# Altium integrated library Power_Library.IntLib: 30 symbols
Pins are listed as number, name and electrical type; pins without a type are passive.

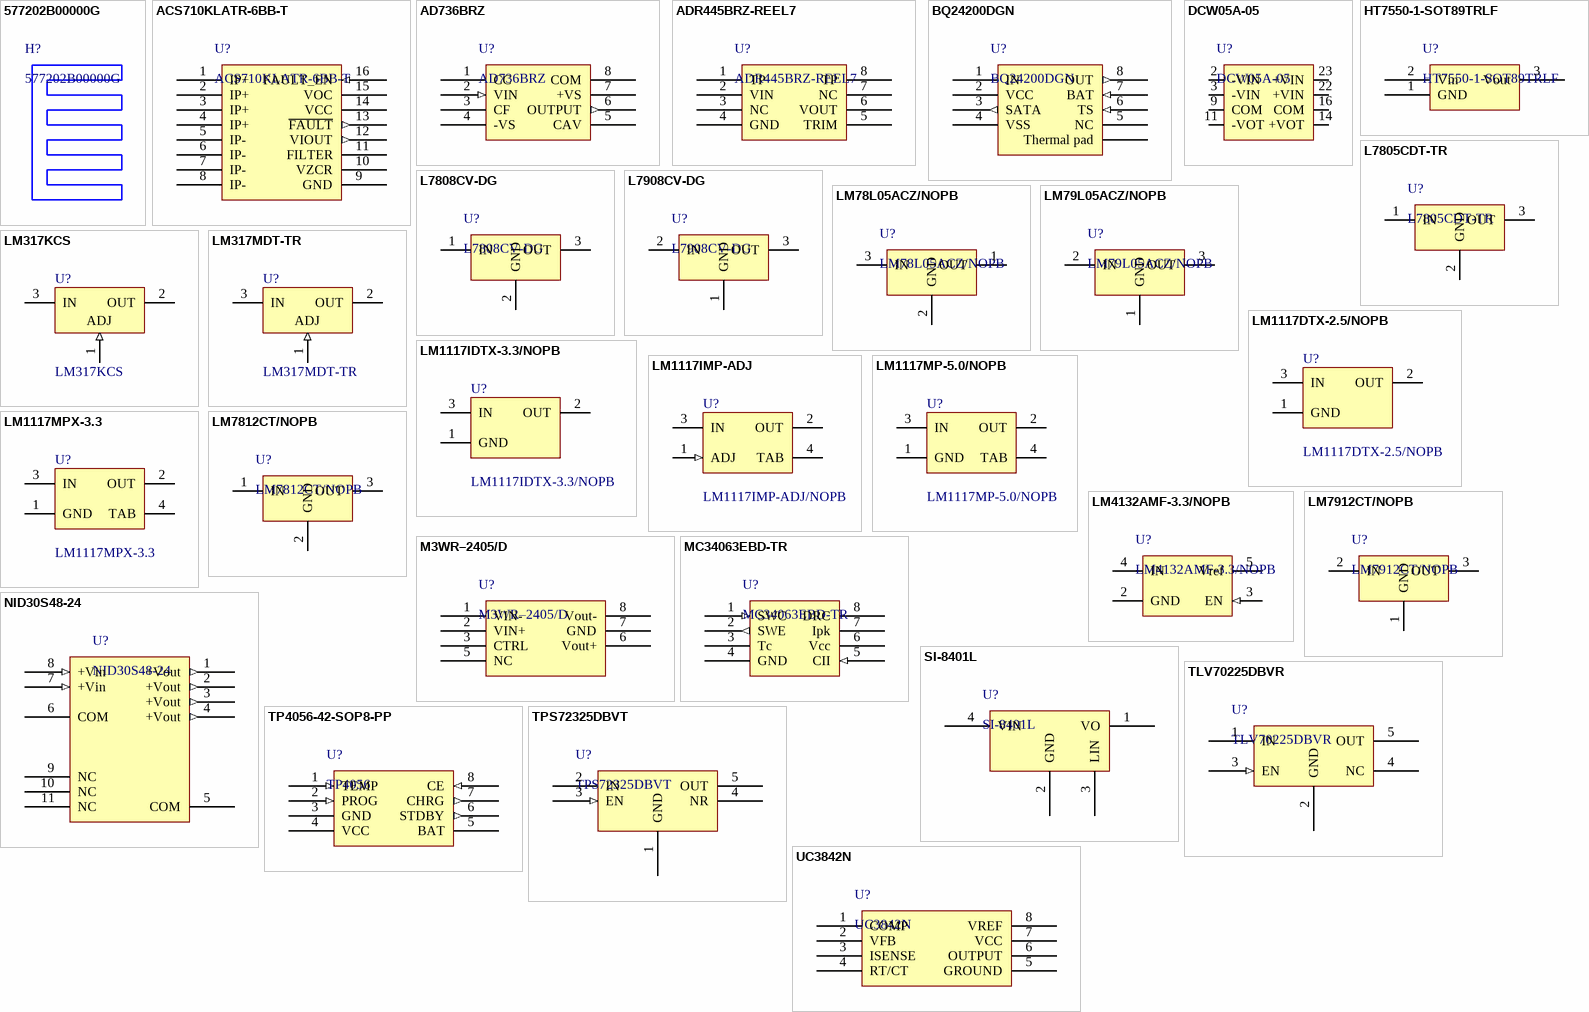
[diagram p0: symbols 577202B00000G to UC3842N]

## 577202B00000G
designator H?
HEAT SINK TO-220 .500" COMPACT， 需附上3mm*6mm圓頭十字螺絲與對應螺帽 * 1組，絕緣套 * 1，絕緣墊片 * 1; 單價: 13; 製造商: Aavid Thermalloy; 代理商: digikey; 參考網站: http://www.digikey.tw/product-detail/zh/aavid-thermalloy/577202B00000G/HS107-ND/108322; 資料手冊: http://www.aavid.com/sites/default/files/products/boardlevel/aavid-standard-heatsinks.pdf
footprint 577202B00000G

## ACS710KLATR-6BB-T
designator U?
SENSOR CURRENT HALL 6A AC/DC, SOIC 16; 單價: 209; 單價1: 55; 製造商: Allegro MicroSystems, LLC; 代理商: digikey; 參考網站(淘寶網): https://detail.tmall.com/item.htm?spm=a230r.1.14.111.XSmFYm&id=43825042733&ns=1&abbucket=2; 參考網站: http://www.digikey.tw/product-detail/zh/allegro-microsystems-llc/ACS710KLATR-6BB-T/620-1517-1-ND/4147406; 資料手冊: http://www.allegromicro.com/~/media/Files/Datasheets/ACS710-Datasheet.ashx
footprint SOIC 16P (7.5mm X 10.3mm)
pins: 1 IP+, 2 IP+, 3 IP+, 4 IP+, 5 IP-, 6 IP-, 7 IP-, 8 IP-, 9 GND (power), 10 VZCR, 11 FILTER, 12 VIOUT (out), 13 ~{FAULT} (out), 14 VCC (power), 15 VOC, 16 FAULT_EN (in)

## AD736BRZ
designator U?
功率管理專用 RMS-DC CONVERTER IC Low Cost-Pwr; 製造商: Analog Devices; 單價: 520.56; 參考網站: http://www.mouser.tw/ProductDetail/Analog-Devices/AD736BRZ/?qs=sGAEpiMZZMuzIDJVHEkzuTFXWbBXgFyU71WT4PmT4HQ%3d; 資料手冊: http://www.analog.com/media/en/technical-documentation/data-sheets/AD736.pdf
footprint SOIC 8P
pins: 1 CC, 2 VIN (in), 3 CF, 4 -VS (power), 5 CAV, 6 OUTPUT (out), 7 +VS (power), 8 COM

## ADR445BRZ-REEL7
designator U?
電壓參考 LDO 5.0V w/ Crnt Sink & Srce, SOIC-8; 製造商: Analog Devices; 代理商: mouser; 單價: 308.98; 參考網站: http://www.mouser.tw/ProductDetail/Analog-Devices/ADR445BRZ-REEL7/?qs=sGAEpiMZZMv9Q1JI0Mo%2ftTGF1afBF26B; 資料手冊: http://www.mouser.com/ds/2/609/ADR440_441_443_444_445-878982.pdf
footprint SMD SOIC 8P
pins: 1 TP, 2 VIN (power), 3 NC (power), 4 GND (power), 5 TRIM (power), 6 VOUT (power), 7 NC (power), 8 TP (power)

## BQ24200DGN
designator U?
電池管理產品 Single-Chip Li-Ion Charger 500-mA, 4.2-V Li-Ion Charger for Current-Limited App. w/Temp Sense in MSOP-8; 製造商: Texas Instruments; 單價: 117.38; 代理商: mouser; 參考網站: http://www.mouser.tw/ProductDetail/Texas-Instruments/BQ24200DGN/?qs=sGAEpiMZZMsfD%252bbMpEGFJW1dVgmxdCLcy9S2TmVyJBY%3d; 資料手冊: http://www.mouser.com/ds/2/405/bq24200-404142.pdf
footprint MSOP 8P EP (TI)
pins: 0 Thermal pad, 1 IN (power), 2 VCC (power), 3 SATA (out), 4 VSS (power), 5 NC (power), 6 TS (in), 7 BAT (in), 8 OUT (out)

## DCW05A-05
designator U?
隔離式DC/DC轉換器 9-18Vin +/-5Vout 50-500mA, 5W; 製造商: Mean Well; 代理商: mouser; 單價: 458.48; 資料手冊: http://www.mouser.com/ds/2/260/DCW05-spec-46707.pdf; 參考網站: http://www.mouser.tw/ProductDetail/Mean-Well/DCW05A-05/?qs=%2fha2pyFadujzLhC1ibUJFBi%252b8sjT3MlNTy8hbFD56Q8%3d; 中文參考手冊: http://www.wellforces.cn/mw_data/dcdc_modu/dcw05/dcw05-spec.pdf
footprint DCW05A-05
pins: 2 -VIN (power), 3 -VIN (power), 9 COM (power), 11 -VOT (power), 14 +VOT (power), 16 COM (power), 22 +VIN (power), 23 +VIN (power)

## HT7550-1-SOT89TRLF
designator U?
Voltage stabiliser; fixed; 5V; 0.1A; SOT89; SMD; 製造商: Holtek; 單價: 4.81; 代理商: octopart; 參考網站: https://octopart.com/search?manufacturer.displayname=Holtek&q=HT7550-1-SOT89TRLF; 資料手冊: http://www.e-ele.net/DataSheet/HT75XX-1.pdf
footprint TO-92
footprint SMD SOT89 (SMD)
pins: 1 GND (power), 2 Vin (power), 3 Vout (power)

## L7805CDT-TR
designator U?
線性電壓穩壓器 5.0V 1.0A Positive, Type  TO-252; 製造商: STMicroelectronics; 單價: 23.9; 代理商: mouser; 資料手冊: http://www.mouser.com/ds/2/389/CD00000444-249828.pdf; 參考網站: http://www.mouser.tw/ProductDetail/STMicroelectronics/L7805CDT-TR/?qs=sGAEpiMZZMuLLNXTG1MZanJ9Atp7Gt2CBB%2fEbvZotvM%3d
footprint TO-252
pins: 1 IN (power), 2 GND (power), 3 OUT (power)

## L7808CV-DG
designator U?
線性電壓穩壓器 Precision 1.5A Reg 24V Out Dual Gauge, Type  TO-220; 製造商: STMicroelectronics; 單價: 22.48; 代理商: mouser; 資料手冊: http://www.mouser.com/ds/2/389/CD00000444-249828.pdf; 參考網站: http://www.mouser.tw/ProductDetail/STMicroelectronics/L7808CV-DG/?qs=sGAEpiMZZMtUqDgmOWBjgK53SZwcKCmZIJ2rGgFr6xo%3d
footprint TO-220 (平衡型)
pins: 1 IN (power), 2 GND (power), 3 OUT (power)

## L7908CV-DG
designator U?
線性電壓穩壓器 Neg VTG Reg 15A Neg 8V 1.5A, Type  TO-220; 製造商: STMicroelectronics; 單價: 29.26; 代理商: mouser; 資料手冊: http://www.mouser.com/ds/2/389/CD00000450-249524.pdf; 參考網站: http://www.mouser.tw/ProductDetail/STMicroelectronics/L7908CV-DG/?qs=sGAEpiMZZMtUqDgmOWBjgOWppaI0OWwStGPUPivUULA%3d
footprint TO-220 (平衡型)
pins: 1 GND (power), 2 IN (power), 3 OUT (power)

## LM78L05ACZ/NOPB
designator U?
線性電壓穩壓器 3-Term Pos Regs, 5V 100mA, Type  TO-92; 製造商: Texas Instruments; 單價: 21.41; 代理商: mouser; 資料手冊: http://www.mouser.com/ds/2/405/lm78l05-406827.pdf; 參考網站: http://www.mouser.tw/ProductDetail/Texas-Instruments/LM78L05ACZ-NOPB/?qs=sGAEpiMZZMtUqDgmOWBjgJwP%252b5MP6LxOODMpO60LaVU%3d
footprint TO-92
pins: 1 OUT (power), 2 GND (power), 3 IN (power)

## LM79L05ACZ/NOPB
designator U?
線性電壓穩壓器 3-Term Pos Regs, -5V 100mA, Type  TO-92; 製造商: Texas Instruments; 單價: 24.98; 代理商: mouser; 資料手冊: http://www.mouser.com/ds/2/405/lm79l05-405367.pdf; 參考網站: http://www.mouser.tw/ProductDetail/Texas-Instruments/LM79L05ACZ-NOPB/?qs=sGAEpiMZZMtUqDgmOWBjgJwP%252b5MP6LxO3IF4yGM1Q6o%3d
footprint TO-92
pins: 1 GND (power), 2 IN (power), 3 OUT (power)

## LM317KCS
designator U?
線性電壓穩壓器 3-Term Adj. Pos.  TO-220-3; 製造商: Texas Instruments; 單價: 26.40; 代理商: mouser; 參考網站: http://www.mouser.tw/ProductDetail/Texas-Instruments/LM317KCS/?qs=sGAEpiMZZMtUqDgmOWBjgJyaVnGQIdqYYlJyFZGaVbY%3d; 資料手冊: http://www.mouser.com/ds/2/405/lm317-556636.pdf
footprint TO-220 (TO, Thru-Hole, Vertical, Heatsink Mounted; 3 In-Line Leads; Pitch 2.54 mm)
footprint TO-220-1 (TO, Thru-Hole, Vertical, Heatsink Mounted; 3 In-Line Leads; Pitch 2.54 mm)
pins: 1 ADJ (in), 2 OUT (power), 3 IN (power)

## LM317MDT-TR
designator U?
線性電壓穩壓器 1.2-37V Adj Positive, TO-252; 單價: 15.34; 製造商: STMicroelectronics; 代理商: Mouser; 參考網站: http://www.mouser.tw/ProductDetail/STMicroelectronics/LM317MDT-TR/?qs=sGAEpiMZZMsgSGrx0WqTbFkqur%252bAVpRj; 資料手冊: http://www.mouser.com/ds/2/389/CD00000549-252317.pdf
footprint TO-252
pins: 1 ADJ (in), 2 OUT (power), 3 IN (power)

## LM1117DTX-2.5/NOPB
designator U?
LDO電壓穩壓器 800mA LDO Linear Reg,  SOT-223; 製造商: Texas Instruments; 單價: 45.67; 代理商: mouser; 資料手冊: http://www.ti.com/lit/ds/symlink/lm1117.pdf; 參考網站: http://www.mouser.tw/ProductDetail/Texas-Instruments/LM1117DTX-25-NOPB/?qs=sGAEpiMZZMsGz1a6aV8DcCERHZHPu4lvruCnkWX8f8o%3d
footprint TO-252
pins: 1 GND (power), 2 OUT (power), 3 IN (power)

## LM1117IDTX-3.3/NOPB
designator U?
LDO電壓穩壓器 800mA LDO Linear Reg, SOT-223; 製造商: Texas Instruments; 單價: 45.67; 代理商: mouser; 資料手冊: http://www.ti.com/lit/ds/symlink/lm1117.pdf; 參考網站: http://www.mouser.tw/ProductDetail/Texas-Instruments/LM1117IDTX-33-NOPB/?qs=sGAEpiMZZMsGz1a6aV8DcCERHZHPu4lvTvJ2298Ixxo%3d
footprint TO-252
pins: 1 GND (power), 2 OUT (power), 3 IN (power)

## LM1117IMP-ADJ
designator U?, comment LM1117IMP-ADJ/NOPB
LDO電壓穩壓器 800mA Low-Dropout Linear Regulator, 4-pin SOT-223; 製造商: Texas Instruments; 代理商: mouser; 單價: 35.68; 資料手冊: http://www.mouser.com/ds/2/405/lm1117-806475.pdf; 參考網站: http://www.mouser.tw/ProductDetail/Texas-Instruments/LM1117IMP-ADJ-NOPB/?qs=sGAEpiMZZMsGz1a6aV8DcCERHZHPu4lv0oeWhBcFHCQ%3d
footprint SOT223 (SOT223, 4-Leads, Body 6.5x3.5mm, Pitch 2.3mm, Lead Span 7mm, IPC Medium Density)
pins: 1 ADJ (in), 2 OUT (power), 3 IN (power), 4 TAB (power)

## LM1117MP-5.0/NOPB
designator U?
LDO電壓穩壓器 800mA Low-Dropout Linear Regulator, 4-pin SOT-223; 製造商: Texas Instruments; 單價: 35.68; 代理商: mouser; 資料手冊: http://www.mouser.com/ds/2/405/lm1117-806475.pdf; 參考網站: http://www.mouser.tw/ProductDetail/Texas-Instruments/LM1117MP-50-NOPB/?qs=sGAEpiMZZMsGz1a6aV8DcCERHZHPu4lvRf1QWbpzAts%3d
footprint SOT223 (SOT223, 4-Leads, Body 6.5x3.5mm, Pitch 2.3mm, Lead Span 7mm, IPC Medium Density)
pins: 1 GND (power), 2 OUT (power), 3 IN (power), 4 TAB (power)

## LM1117MPX-3.3
designator U?
LDO電壓穩壓器 800mA Low-Dropout Linear Regulator, 4-pin SOT-223; 製造商: Texas Instruments; 單價: 53.16; 代理商: mouser; 資料手冊: http://www.mouser.com/ds/2/405/lm1117-806475.pdf; 參考網站: http://www.mouser.tw/ProductDetail/Texas-Instruments/LM1117MPX-33/?qs=sGAEpiMZZMsGz1a6aV8DcCERHZHPu4lvXUwcsduNwWQ%3d
footprint SOT223 (SOT223, 4-Leads, Body 6.5x3.5mm, Pitch 2.3mm, Lead Span 7mm, IPC Medium Density)
pins: 1 GND (power), 2 OUT (power), 3 IN (power), 4 TAB (power)

## LM4132AMF-3.3/NOPB
designator U?
電壓參考 Prec LDO Vtg Ref  3.3V , SOT23-5; 製造商: Texas Instruments; 代理商: mouser; 單價: 110.25; 參考網站: http://www.mouser.tw/ProductDetail/Texas-Instruments/LM4132AMF-33-NOPB/?qs=sGAEpiMZZMuBck1X%252b7j9fFxOFMTVQaIHwa28E8U1SlI%3d; 參考手冊: http://www.mouser.com/ds/2/405/lm4132-557767.pdf
footprint SOT23-5
pins: 2 GND (power), 3 EN (in), 4 IN (power), 5 Vref (power)

## LM7812CT/NOPB
designator U?
線性電壓穩壓器 3-Term Pos Regs, 12V 1A, Type  TO-220; 製造商: Texas Instruments; 單價: 55.31; 代理商: mouser; 資料手冊: http://www.mouser.com/ds/2/405/lm340-n-405278.pdf; 參考網站: http://www.mouser.tw/ProductDetail/Texas-Instruments/LM7812CT-NOPB/?qs=sGAEpiMZZMvYvv22R2xfePS1%252bj7fpdk9soksvTPakQg%3d
footprint TO-220 (平衡型)
pins: 1 IN (power), 2 GND (power), 3 OUT (power)

## LM7912CT/NOPB
designator U?
線性電壓穩壓器 3-Term Pos Regs, -12V 1A, Type  TO-220; 製造商: Texas Instruments; 單價: 50.31; 代理商: mouser; 資料手冊: http://www.mouser.com/ds/2/405/lm7912-444530.pdf; 參考網站: http://www.mouser.tw/ProductDetail/Texas-Instruments/LM7912CT-NOPB/?qs=sGAEpiMZZMtUqDgmOWBjgJwP%252b5MP6LxO5EF4eqLbc6o%3d
footprint TO-220 (平衡型)
pins: 1 GND (power), 2 IN (power), 3 OUT (power)

## M3WR–2405/D
designator U?
DC/DC CONVERTER M3WR-XXXX/D SERIES  3W REGULATED OUTPUT; 製造商: ctc-dc-dc; 資料手冊: http://www.ctc-dc-dc.com.tw/ch_proimages/65659_p.pdf; 代理商: *; 參考網站: http://www.ctc-dc-dc.com.tw/product.php?&KIND=C&mode=show&cid=89&pid=469; 單價: *
footprint M3WR (M3WR-2412D)
pins: 1 VIN- (power), 2 VIN+ (power), 3 CTRL (power), 5 NC (power), 6 Vout+ (power), 7 GND (power), 8 Vout- (power)

## MC34063EBD-TR
designator U?
電壓穩壓器 - 開關調整器 DC DC CONVERTER CONTROL CIRCUITS, SOIC-8; 單價: 19.27; 製造商: STMicroelectronics; 代理商: mouser; 資料手冊: https://www.sparkfun.com/datasheets/IC/MC34063A.pdf; 參考網站: http://www.mouser.tw/ProductDetail/STMicroelectronics/MC34063EBD-TR/?qs=sGAEpiMZZMsMIqGZiACxIcjiyDN17OoEZtnygNMUHNE%3d
footprint SOIC 8P
pins: 1 SWC (in), 2 SWE (out), 3 Tc, 4 GND (power), 5 CII (in), 6 Vcc (power), 7 Ipk, 8 DRC

## NID30S48-24
designator U?
非隔離式DC/DC轉換器 48Vin 24Vout 1.25A 30W SIP non-isolated; 製造商: Mean Well; 單價: 742.84; 代理商: mouser; 參考網站: http://www.mouser.tw/ProductDetail/Mean-Well/NID30S48-24/?qs=%2fha2pyFadujKKCUat%2fE4LQBN2UGU8cRHdr6y2CnDihQfl89xKzf0pA%3d%3d; 資料手冊: http://www.meanwell.com.tw/webapp/product/search.aspx?prod=nid30
footprint NID30S48-24
pins: 1 +Vout (out), 2 +Vout (out), 3 +Vout (out), 4 +Vout (out), 5 COM (power), 6 COM (power), 7 +Vin (in), 8 +Vin (in), 9 NC, 10 NC, 11 NC

## SI-8401L
designator U?
IC REG BUCK 5V 0.5A EI-12.5; 製造商: Sanken; 單價: 292.5; 代理商: digikey; 資料手冊: http://media.digikey.com/pdf/Data%20Sheets/Sanken/SI-8400L_8500L_Series.pdf; 參考網站: http://www.digikey.tw/product-search/zh/power-supplies-board-mount/dc-dc-converters/4325599?k=SI-8401
footprint SI-8400L
pins: 1 VO (power), 2 GND (power), 3 LIN (power), 4 VIN (power)

## TLV70225DBVR
designator U?
LDO電壓穩壓器 +2.5V, 300mALow IQLDO Reg,   SOT-23-5; 單價: 19.27; 製造商: Texas Instruments; 代理商: mouser; 資料手冊: http://www.mouser.com/ds/2/405/tlv702-558090.pdf; 參考網站: http://www.mouser.tw/ProductDetail/Texas-Instruments/TLV70225DBVR/?qs=sGAEpiMZZMsGz1a6aV8DcOCbyvSkQ88lxvyfqcpx5P4%3d
footprint SOT23-5
pins: 1 IN (power), 2 GND (power), 3 EN (in), 4 NC, 5 OUT (power)

## TP4056-42-SOP8-PP
designator U?, comment TP4056
TP4056 是一款完整的单节锂离子电池采用恒定电流/恒定电压线性充电器。; 製造商: 南京拓微集成电路有限公司; 代理商: 淘寶網; 資料手冊: http://file1.dzsc.com/product/14/02/19/1015113_150910046.pdf; 資料手冊: https://dlnmh9ip6v2uc.cloudfront.net/datasheets/Prototyping/TP4056.pdf; 單價: *
footprint SMD SOP 8P (1.27mm間距)
pins: 1 TEMP (in), 2 PROG (in), 3 GND (power), 4 VCC (power), 5 BAT (power), 6 STDBY (out), 7 CHRG (out), 8 CE (in)

## TPS72325DBVT
designator U?
LDO電壓穩壓器 -2.5V, 200mA Low Noise High-PSRR,   SOT-23-5; 單價: 106.32; 製造商: Texas Instruments; 代理商: mouser; 資料手冊: http://www.mouser.com/ds/2/405/tps723-558413.pdf; 參考網站: http://www.mouser.tw/ProductDetail/Texas-Instruments/TPS72325DBVT/?qs=sGAEpiMZZMsGz1a6aV8DcPXeWoVS0FnzsRZ0yKBpkjA%3d
footprint SOT23-5
pins: 1 GND (power), 2 IN (power), 3 EN (in), 4 NR, 5 OUT (power)

## UC3842N
designator U?
開關控制器 Current Mode, DIP 8; 製造商: Texas Instruments; 代理商: mouser; 單價: 55.66; 參考網站: http://www.mouser.tw/ProductDetail/Texas-Instruments/UC3842N/?qs=sGAEpiMZZMvFgFrcgbsedRlPUK6OHeaNKO9GeQzKzZ8%3d; 資料手冊: http://www.ti.com/lit/ds/symlink/uc3842.pdf
footprint DIP-8
pins: 1 COMP, 2 VFB, 3 ISENSE, 4 RT/CT, 5 GROUND, 6 OUTPUT, 7 VCC, 8 VREF